# Altium footprint library TO195P500X2020X2210-11P.PcbLib: 1 footprints
Each footprint in its own frame and in the unit in brackets; x right, y up, seen from the top. Pads: shape width x height; smd on the part's side, far side on the other; paste and mask are expansions set on the pad; w line width, h text height; cw(c..) or ccw(c..) is an arc to the next point about the centre after c.
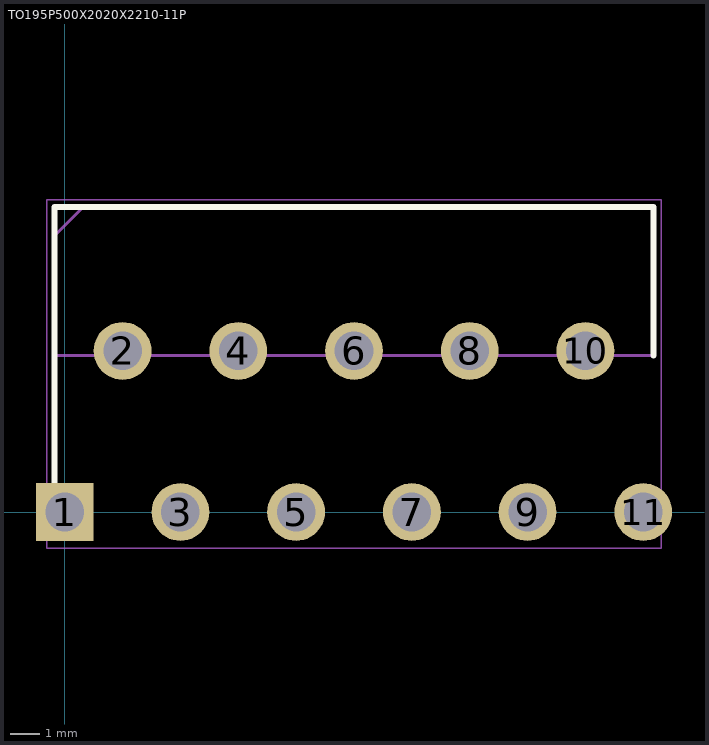
[diagram p0: the footprint, top view; thin cyan lines are the x and y axes]

## TO195P500X2020X2210-11P [mm]
pads (11):
  rect 1.95x1.95 / inner round 1.95 / far side rect 1.95x1.95 hole 1.3: 1(0,0)
  round 1.95 hole 1.3: 2(1.95,5.43) 3(3.9,0) 4(5.85,5.43) 5(7.8,0) 6(9.75,5.43) 7(11.7,0) 8(13.65,5.43) 9(15.6,0) 10(17.55,5.43) 11(19.5,0)
L26-Silk Screen Top (Multiple PADS layers...):
  lines w0.2: -0.35,0 -0.35,10.28 19.85,10.28 19.85,5.28
L15 (Multiple PADS layers...):
  lines w0.1: -0.35,9.305 0.625,10.28 ; -0.35,5.28 19.85,5.28 19.85,10.28 -0.35,10.28 -0.35,5.28
L20:
  lines w0.05: -0.6,-1.225 20.1,-1.225 20.1,10.53 -0.6,10.53 -0.6,-1.225